# Altium schematic symbol library SDCard.SchLib: 1 symbol
Pins are listed as number, name and electrical type; pins without a type are passive.

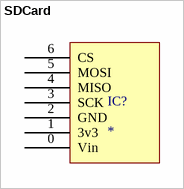
[diagram p0: symbol SDCard]

## SDCard
designator IC?
footprint Axial 0.0
pins: 0 Vin, 1 3v3, 2 GND, 3 SCK, 4 MISO, 5 MOSI, 6 CS